# Altium footprint library SP_BLE_EM.PcbLib: 2 footprints
Each footprint in its own frame and in the unit in brackets; x right, y up, seen from the top. Pads: shape width x height; smd on the part's side, far side on the other; paste and mask are expansions set on the pad; w line width, h text height; cw(c..) or ccw(c..) is an arc to the next point about the centre after c.
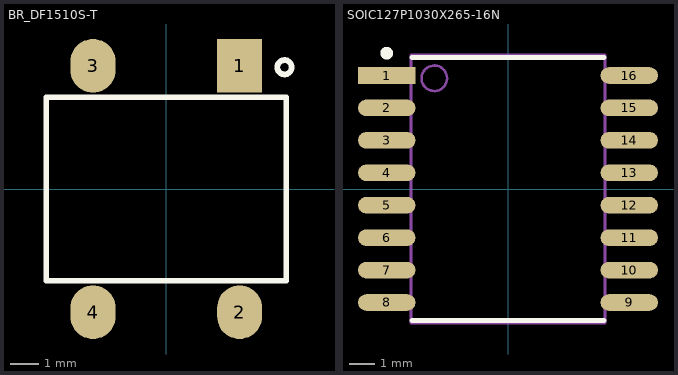
[diagram p0: the footprints below, top view; thin cyan lines are the x and y axes]

## BR_DF1510S-T [mm] "BRIDGE RECT 1PHASE 1KV 1.5A DF-S"
height 2.6
pads (4):
  rect 1.6x1.9 smd: 1(2.6,4.37)
  oval 1.6x1.9 smd: 2(2.6,-4.37) 3(-2.6,4.37) 4(-2.6,-4.37)
Top Overlay:
  circle w0.203: c4.191,4.318 r0.254
  lines w0.203: -4.255,-3.25 4.255,-3.25 4.255,3.25 -4.255,3.25 -4.255,-3.25
Mechanical 1:
  text "'.Designator'" at 0,0 h1.52
Mechanical 15:
  circle w0.127: c2.6,4.37 r0.254
  lines w0.127: -4.255,-3.25 -4.255,3.25 4.255,3.25 4.255,-3.25 -4.255,-3.25
  text "+" at 2.159,1.651 h1.52
  text "-" at -2.794,1.905 h1.52
  text "~" at 2.286,-2.921 h1.52
  text "~" at -2.921,-2.921 h1.52
3D body "User Library-Bridge rectifier DFS package-1.STEP": height 3.02, standoff 0, extent -4.4,-4.985 4.4,4.985

## SOIC127P1030X265-16N [mm] "SOIC, 16-Leads, Body 10.30x7.50mm, Pitch 1.27mm, IPC Medium Density"
height 2.65
pads (16):
  rect 2.25x0.65 smd: 1(-4.75,4.445)
  oval 2.25x0.65 smd: 2(-4.75,3.175) 3(-4.75,1.905) 4(-4.75,0.635) 5(-4.75,-0.635) 6(-4.75,-1.905) 7(-4.75,-3.175) 8(-4.75,-4.445) 9(4.75,-4.445) 10(4.75,-3.175) 11(4.75,-1.905) 12(4.75,-0.635) 13(4.75,0.635) 14(4.75,1.905) 15(4.75,3.175) 16(4.75,4.445)
Top Overlay:
  circle w0.25: c-4.75,5.32 r0.125
  lines w0.202: -3.75,-5.15 3.75,-5.15 ; -3.75,5.15 3.75,5.15
Mechanical 1:
  text "'.Designator'" at 0,0 h1.52
Mechanical 15:
  circle w0.1: c-2.887,4.336 r0.5
  lines w0.127: -3.8,-5.25 -3.8,5.25 3.8,5.25 3.8,-5.25 -3.8,-5.25
3D body "SOIC127P1030X265-16N.step": height 2.65, standoff 0, extent -5.15,-5.25 5.15,5.25